# Altium integrated library Altium_Coil_Inductor.IntLib: 94 symbols (part 3 of 3)
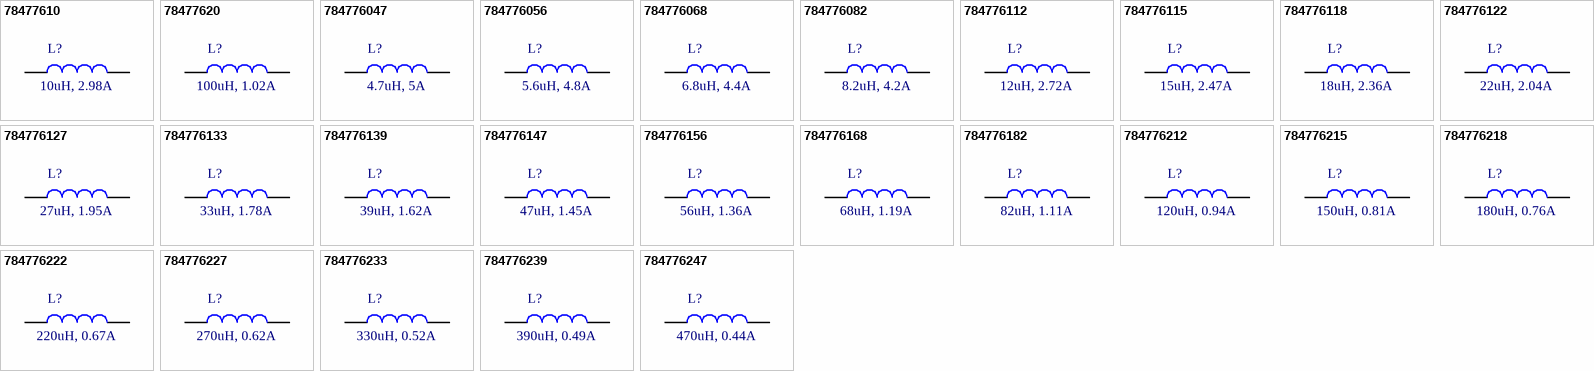
[diagram p5: symbols 78477610 to 784776247]

## 784776215
designator L?, comment 150uH, 0.81A
WE-PD2A SMT Power Inductor, size 1054, 150uH, 0.81A; Manufacturer Part Number: 784776215; Manufacturer: Wurth Elektronik; DC Resistance max.: 0.47Ohm; Saturation Current: 0.9A; Self Resonant Frequency: 5.52MHz; DC Resistance typ.: 0.3Ohm; Rated Voltage: 80VDC; Supply 1 Name: Digi-Key; Supply 1 SN: 732-6895-2-ND; Supply 2 Name: Mouser; Supply 2 SN: 710-784776215; Supply 3 Name: thegioiic; ComponentLink1Description: Manufacturer; ComponentLink1URL: http://www.we-online.de; ComponentLink2Description: Datasheet; ComponentLink2URL: https://www.we-online.com/catalog/datasheet/784776215.pdf; Published Date: May 2020; Rated Current: 0.81A; Inductance: 150uH; Operating Temperature: -40 to +125degC; Mounting Technology: SMT; Packaging: Tape and Reel; Size: 1054; Supply 1 URL: https://www.digikey.com/en/products/detail/w%C3%BCrth-elektronik/784776215/5168925?s=N4IgTCBcDaIOwA4Asc4DYwEYCsIC6AvkA; Supply 2 URL: https://www.mouser.vn/ProductDetail/Wurth-Elektronik/784776215?qs=sBf%2Fb4nBSlfmLd8qXpTmXg%3D%3D; Supply 3 SN: *; Supply 3 URL: https://www.thegioiic.com/cdrh104-cuon-cam-dan-smd-1038-151-150uh-1-4a
footprint WE-PD2A_1054
pins: 1, 2

## 784776218
designator L?, comment 180uH, 0.76A
WE-PD2A SMT Power Inductor, size 1054, 180uH, 0.76A; Manufacturer Part Number: 784776218; Manufacturer: Wurth Elektronik; DC Resistance max.: 0.63Ohm; Saturation Current: 0.78A; Self Resonant Frequency: 5.04MHz; DC Resistance typ.: 0.32Ohm; Rated Voltage: 80VDC; Supply 1 Name: Digi-Key; Supply 1 SN: 732-6896-2-ND; Supply 2 Name: Mouser; Supply 2 SN: 710-784776218; Supply 3 Name: thegioiic; ComponentLink1Description: Manufacturer; ComponentLink1URL: http://www.we-online.de; ComponentLink2Description: Datasheet; ComponentLink2URL: https://www.we-online.com/catalog/datasheet/784776218.pdf; Published Date: May 2020; Rated Current: 0.76A; Inductance: 180uH; Operating Temperature: -40 to +125degC; Mounting Technology: SMT; Packaging: Tape and Reel; Size: 1054; Supply 1 URL: https://www.digikey.com/en/products/detail/w%C3%BCrth-elektronik/784776218/5168926?s=N4IgTCBcDaIOwA4Asc4DYwEYEgLoF8g; Supply 2 URL: https://www.mouser.vn/ProductDetail/Wurth-Elektronik/784776218?qs=sBf%2Fb4nBSlf52JJEbARHAQ%3D%3D; Supply 3 SN: *; Supply 3 URL: https://www.thegioiic.com/cdrh104-cuon-cam-dan-smd-1038-181-180uh-1-24a
footprint WE-PD2A_1054
pins: 1, 2

## 784776222
designator L?, comment 220uH, 0.67A
WE-PD2A SMT Power Inductor, size 1054, 220uH, 0.67A; Manufacturer Part Number: 784776222; Manufacturer: Wurth Elektronik; DC Resistance max.: 0.73Ohm; Saturation Current: 0.77A; Self Resonant Frequency: 4.55MHz; DC Resistance typ.: 0.451Ohm; Rated Voltage: 80VDC; Supply 1 Name: Digi-Key; Supply 1 SN: 732-6897-2-ND; Supply 2 Name: Mouser; Supply 2 SN: 710-784776222; Supply 3 Name: thegioiic; ComponentLink1Description: Manufacturer; ComponentLink1URL: http://www.we-online.de; ComponentLink2Description: Datasheet; ComponentLink2URL: https://www.we-online.com/catalog/datasheet/784776222.pdf; Published Date: May 2020; Rated Current: 0.67A; Inductance: 220uH; Operating Temperature: -40 to +125degC; Mounting Technology: SMT; Packaging: Tape and Reel; Size: 1054; Supply 1 URL: https://www.digikey.com/en/products/detail/w%C3%BCrth-elektronik/784776222/5168927?s=N4IgTCBcDaIOwA4Asc4DYyZAXQL5A; Supply 2 URL: https://www.mouser.vn/ProductDetail/Wurth-Elektronik/784776222?qs=sBf%2Fb4nBSld4wJY9PdcFLQ%3D%3D; Supply 3 SN: *; Supply 3 URL: https://www.thegioiic.com/cdrh104-cuon-cam-dan-smd-1038-221-220uh-1-19a
footprint WE-PD2A_1054
pins: 1, 2

## 784776227
designator L?, comment 270uH, 0.62A
WE-PD2A SMT Power Inductor, size 1054, 270uH, 0.62A; Manufacturer Part Number: 784776227; Manufacturer: Wurth Elektronik; DC Resistance max.: 0.97Ohm; Saturation Current: 0.68A; Self Resonant Frequency: 3.87MHz; DC Resistance typ.: 0.5Ohm; Rated Voltage: 80VDC; Supply 1 Name: Digi-Key; Supply 1 SN: 732-6898-2-ND; Supply 2 Name: Mouser; Supply 2 SN: 710-784776227; Supply 3 Name: thegioiic; ComponentLink1Description: Manufacturer; ComponentLink1URL: http://www.we-online.de; ComponentLink2Description: Datasheet; ComponentLink2URL: https://www.we-online.com/catalog/datasheet/784776227.pdf; Published Date: May 2020; Rated Current: 0.62A; Inductance: 270uH; Operating Temperature: -40 to +125degC; Mounting Technology: SMT; Packaging: Tape and Reel; Size: 1054; Supply 1 URL: https://www.digikey.com/en/products/detail/w%C3%BCrth-elektronik/784776227/5168928?s=N4IgTCBcDaIOwA4Asc4DYxjiAugXyA; Supply 2 URL: https://www.mouser.vn/ProductDetail/Wurth-Elektronik/784776227?qs=sBf%2Fb4nBSldH%252BvC3DcC5AQ%3D%3D; Supply 3 SN: *; Supply 3 URL: https://www.thegioiic.com/cdrh104-cuon-cam-dan-smd-1038-271-270uh-1-06a
footprint WE-PD2A_1054
pins: 1, 2

## 784776233
designator L?, comment 330uH, 0.52A
WE-PD2A SMT Power Inductor, size 1054, 330uH, 0.52A; Manufacturer Part Number: 784776233; Manufacturer: Wurth Elektronik; DC Resistance max.: 1.15Ohm; Saturation Current: 0.59A; Self Resonant Frequency: 3.57MHz; DC Resistance typ.: 0.75Ohm; Rated Voltage: 80VDC; Supply 1 Name: Digi-Key; Supply 1 SN: 732-6899-2-ND; Supply 2 Name: Mouser; Supply 2 SN: 710-784776233; ComponentLink1Description: Manufacturer; ComponentLink1URL: http://www.we-online.de; ComponentLink2Description: Datasheet; ComponentLink2URL: https://www.we-online.com/catalog/datasheet/784776233.pdf; Published Date: May 2020; Rated Current: 0.52A; Inductance: 330uH; Operating Temperature: -40 to +125degC; Mounting Technology: SMT; Packaging: Tape and Reel; Size: 1054; Supply 1 URL: https://www.digikey.com/en/products/detail/w%C3%BCrth-elektronik/784776233/5168929?s=N4IgTCBcDaIOwA4Asc4DYwGZMgLoF8g; Supply 2 URL: https://www.mouser.vn/ProductDetail/Wurth-Elektronik/784776233?qs=sBf%2Fb4nBSlfHfo8OL%2FPJ4Q%3D%3D
footprint WE-PD2A_1054 (SMD Power Inductor, body 10x9mm)
pins: 1, 2

## 784776239
designator L?, comment 390uH, 0.49A
WE-PD2A SMT Power Inductor, size 1054, 390uH, 0.49A; Manufacturer Part Number: 784776239; Manufacturer: Wurth Elektronik; DC Resistance max.: 1.3Ohm; Saturation Current: 0.54A; Self Resonant Frequency: 3.57MHz; DC Resistance typ.: 0.794Ohm; Rated Voltage: 80VDC; Supply 1 Name: Digi-Key; Supply 1 SN: 732-6900-2-ND; Supply 2 Name: Mouser; Supply 2 SN: 710-784776239; ComponentLink1Description: Manufacturer; ComponentLink1URL: http://www.we-online.de; ComponentLink2Description: Datasheet; ComponentLink2URL: https://www.we-online.com/catalog/datasheet/784776239.pdf; Published Date: May 2020; Rated Current: 0.49A; Inductance: 390uH; Operating Temperature: -40 to +125degC; Mounting Technology: SMT; Packaging: Tape and Reel; Size: 1054; Supply 1 URL: https://www.digikey.com/en/products/detail/w%C3%BCrth-elektronik/784776239/5168930?s=N4IgTCBcDaIOwA4Asc4DYwGYCcIC6AvkA; Supply 2 URL: https://www.mouser.vn/ProductDetail/Wurth-Elektronik/784776239?qs=sBf%2Fb4nBSlfZxa3Jw5PZ%252BA%3D%3D
footprint WE-PD2A_1054
pins: 1, 2

## 784776247
designator L?, comment 470uH, 0.44A
WE-PD2A SMT Power Inductor, size 1054, 470uH, 0.44A; Manufacturer Part Number: 784776247; Manufacturer: Wurth Elektronik; DC Resistance max.: 1.48Ohm; Saturation Current: 0.5A; Self Resonant Frequency: 2.94MHz; DC Resistance typ.: 0.969Ohm; Rated Voltage: 80VDC; Supply 1 Name: Digi-Key; Supply 1 SN: 732-6901-2-ND; Supply 2 Name: Mouser; Supply 2 SN: 710-784776247; Supply 3 Name: thegioiic; ComponentLink1Description: Manufacturer; ComponentLink1URL: http://www.we-online.de; ComponentLink2Description: Datasheet; ComponentLink2URL: https://www.we-online.com/catalog/datasheet/784776247.pdf; Published Date: May 2020; Rated Current: 0.44A; Inductance: 470uH; Operating Temperature: -40 to +125degC; Mounting Technology: SMT; Packaging: Tape and Reel; Size: 1054; Supply 1 URL: https://www.digikey.com/en/products/detail/w%C3%BCrth-elektronik/784776247/5168931?s=N4IgTCBcDaIOwA4Asc4DYwpAXQL5A; Supply 2 URL: https://www.mouser.vn/ProductDetail/Wurth-Elektronik/784776247?qs=sBf%2Fb4nBSlc%252BKtw1A0cG5A%3D%3D; Supply 3 SN: *; Supply 3 URL: https://www.thegioiic.com/cdrh104-cuon-cam-dan-smd-1038-471-470uh-2-44a
footprint WE-PD2A_1054
pins: 1, 2